# EAGLE library part ESP32-C3-MINI-1U-H4X (library ESP32-C3-MINI-1U-H4X)
Bluetooth, WiFi 802.11b/g/n, Bluetooth v5.0 Transceiver Module 2.412GHz ~ 2.484GHz Antenna Not Included, W.FL Surface Mount Source: Datasheet <https://www.espressif.com/sites/default/files/documentation/esp32-c3-mini-1_datasheet_en.pdf>
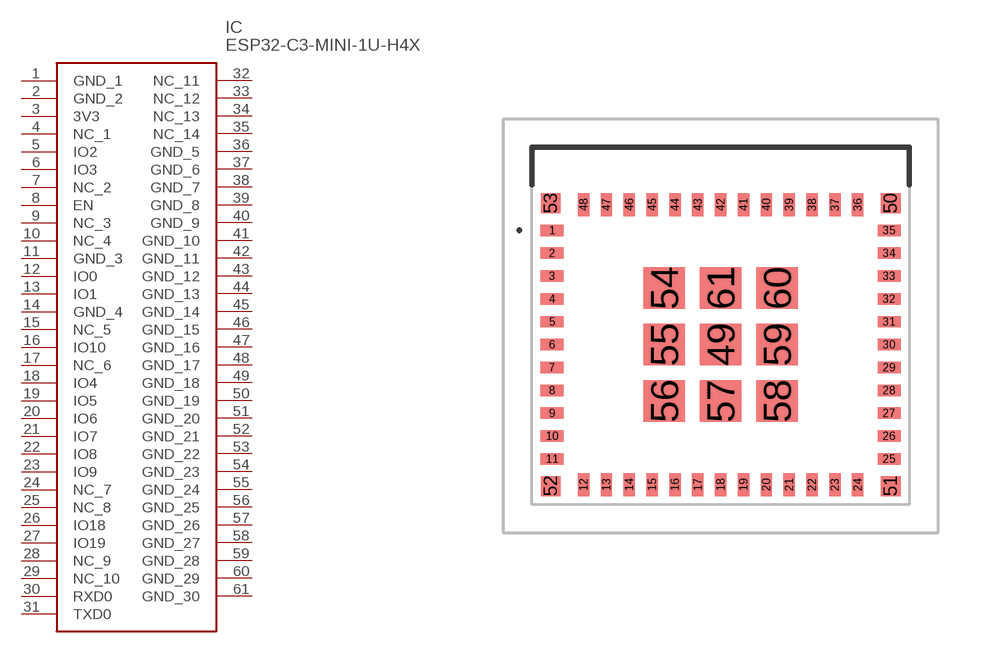
[diagram p0: symbol with the pads of ESP32C3MINI1UH4X; footprint ESP32C3MINI1UH4X]

Designator prefix IC

## ESP32-C3-MINI-1U-H4X (Description: Bluetooth, WiFi 802.11b/g/n, Bluetooth v5.0 Transceiver Module 2.412GHz ~ 2.484GHz Antenna Not Included, W.FL Surface Mount; Height: 2.55mm; Manufacturer_Name: Espressif Systems; Manufacturer_Part_Number: ESP32-C3-MINI-1U-H4X)  [ESP32C3MINI1UH4X]
1  GND_1
2  GND_2
3  3V3
4  NC_1
5  IO2
6  IO3
7  NC_2
8  EN
9  NC_3
10  NC_4
11  GND_3
12  IO0
13  IO1
14  GND_4
15  NC_5
16  IO10
17  NC_6
18  IO4
19  IO5
20  IO6
21  IO7
22  IO8
23  IO9
24  NC_7
25  NC_8
26  IO18
27  IO19
28  NC_9
29  NC_10
30  RXD0
31  TXD0
32  NC_11
33  NC_12
34  NC_13
35  NC_14
36  GND_5
37  GND_6
38  GND_7
39  GND_8
40  GND_9
41  GND_10
42  GND_11
43  GND_12
44  GND_13
45  GND_14
46  GND_15
47  GND_16
48  GND_17
49  GND_18
50  GND_19
51  GND_20
52  GND_21
53  GND_22
54  GND_23
55  GND_24
56  GND_25
57  GND_26
58  GND_27
59  GND_28
60  GND_29
61  GND_30

## Footprint ESP32C3MINI1UH4X (pad centres in mm)
ESP32-C3-MINI-1U-H4X-2
smd 0.8 x 0.4: 1 -5.9,4; 2 -5.9,3.2; 3 -5.9,2.4; 4 -5.9,1.6; 5 -5.9,0.8; 6 -5.9,0; 7 -5.9,-0.8; 8 -5.9,-1.6; 9 -5.9,-2.4; 10 -5.9,-3.2; 11 -5.9,-4; 25 5.9,-4; 26 5.9,-3.2; 27 5.9,-2.4; 28 5.9,-1.6; 29 5.9,-0.8; 30 5.9,0; 31 5.9,0.8; 32 5.9,1.6; 33 5.9,2.4; 34 5.9,3.2; 35 5.9,4
smd 0.4 x 0.8: 12 -4.8,-4.9; 13 -4,-4.9; 14 -3.2,-4.9; 15 -2.4,-4.9; 16 -1.6,-4.9; 17 -0.8,-4.9; 18 0,-4.9; 19 0.8,-4.9; 20 1.6,-4.9; 21 2.4,-4.9; 22 3.2,-4.9; 23 4,-4.9; 24 4.8,-4.9; 36 4.8,4.9; 37 4,4.9; 38 3.2,4.9; 39 2.4,4.9; 40 1.6,4.9; 41 0.8,4.9; 42 0,4.9; 43 -0.8,4.9; 44 -1.6,4.9; 45 -2.4,4.9; 46 -3.2,4.9; 47 -4,4.9; 48 -4.8,4.9
smd 1.45 x 1.45: 49 0,0; 54 -1.975,1.975; 55 -1.975,0; 56 -1.975,-1.975; 57 0,-1.975; 58 1.975,-1.975; 59 1.975,0; 60 1.975,1.975; 61 0,1.975
smd 0.7 x 0.7: 50 5.95,4.95; 51 5.95,-4.95; 52 -5.95,-4.95; 53 -5.95,4.95